# Altium schematic symbol library res.SchLib: 1 symbol
Pins are listed as number, name and electrical type; pins without a type are passive.

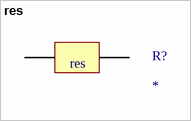
[diagram p0: symbol res]

## res
designator R?
footprint res
pins: 0, 1